# EAGLE library part 260-3A-12 (library dec-con)
RELAY 4 x switch, Omron
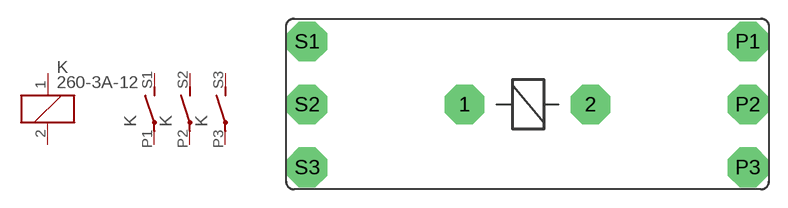
[diagram p44: symbol with the pads of 260-3A-12; footprint 260-3A-12]

Designator prefix K; gates 1=K-1 2=S-1 3=S-1 4=S-1

## 260-3A-12  [260-3A-12]
1  1:1  pas
2  1:2  pas
P1  2:P  pas
P2  3:P  pas
P3  4:P  pas
S1  2:S  pas
S2  3:S  pas
S3  4:S  pas

## Footprint 260-3A-12 (pad centres in mm)
RELAY 4 x switch, Omron
drill 2.184 octagon: 1 -5.08,0; 2 5.08,0; P1 17.78,5.08; P2 17.78,0; P3 17.78,-5.08; S1 -17.78,5.08; S2 -17.78,0; S3 -17.78,-5.08